# Altium footprint library PcbLib1.PcbLib: 6 footprints
Each footprint in its own frame and in the unit in brackets; x right, y up, seen from the top. Pads: shape width x height; smd on the part's side, far side on the other; paste and mask are expansions set on the pad; w line width, h text height; cw(c..) or ccw(c..) is an arc to the next point about the centre after c.
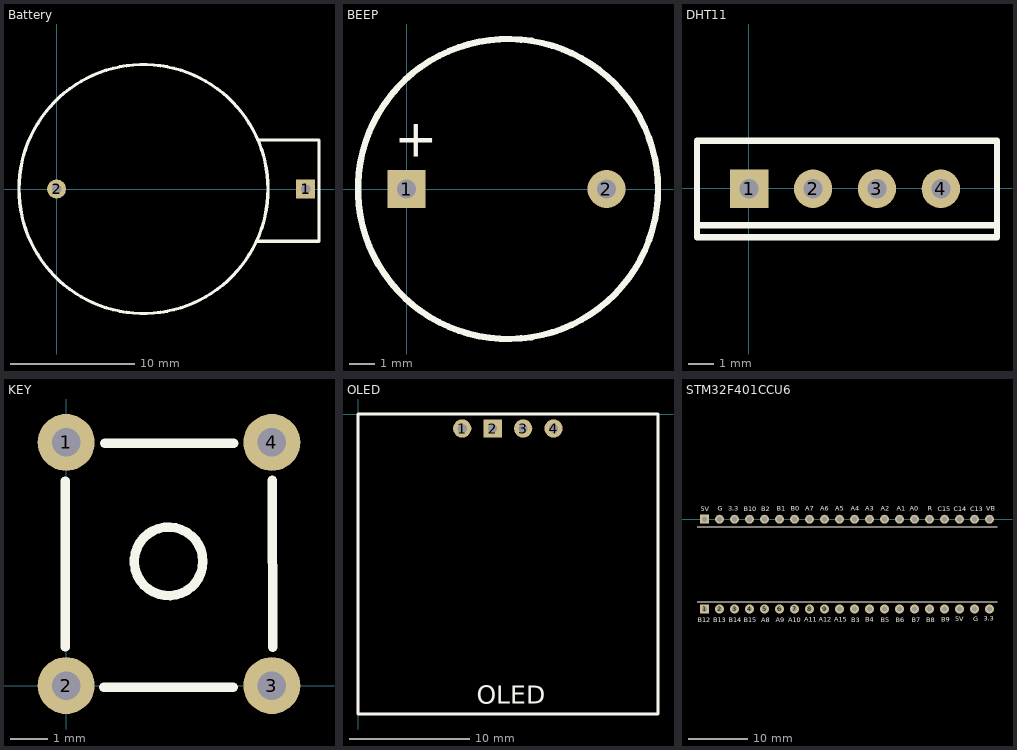
[diagram p0: the footprints below, top view; thin cyan lines are the x and y axes]

## Battery [mil]
pads (2):
  rect 60x60 hole 30: 1(787.4,0)
  round 60 hole 30: 2(0,0)
Top Overlay:
  circle w10: c275,0 r393.7
  lines w10: 635,-165 830,-165 830,155 635,155

## BEEP [mil]
pads (2):
  rect 60x60 hole 30: 1(0,0)
  round 60 hole 30: 2(314.96,0)
Top Overlay:
  circle w10: c159.84,0 r236.22
  text "+" at -19.53,50.4 h60

## DHT11 [mil]
pads (4):
  rect 60x60 hole 30: 1(0.39,-0.79)
  round 60 hole 30: 2(100.39,-0.79) 3(200.39,-0.79) 4(300.39,-0.79)
Top Overlay:
  lines w10: -79.13,-57.87 388.19,-57.87 ; -81.1,-76.77 -81.1,74.41 388.19,74.41 388.19,-76.77 -81.1,-76.77

## KEY [mil]
pads (4):
  round 60 hole 30: 1(0,255.91) 2(0,0) 3(216.54,0) 4(216.54,255.91)
Top Overlay:
  circle w10: c107.87,130.71 r36.1
  lines w10: -1.18,215.35 -0.79,40.55 ; 39.76,-1.97 175.98,-1.97 ; 40.55,255.12 176.38,255.12 ; 216.93,216.14 217.32,40.16

## OLED [mil]
pads (4):
  round 60 hole 30: 1(342.13,-47.64) 3(542.13,-47.64) 4(642.13,-47.64)
  rect 60x60 hole 30: 2(442.13,-47.64)
Top Overlay:
  lines w10: 0,-0.75 0,-985 984.25,-985 ; 0,0 984.25,0 ; 985,-985 985,-0.75
  text "OLED" at 389.92,-951.02 h60

## STM32F401CCU6 [mm]
pads (40):
  rect 1.5x1.5 hole 0.9: 1(7.239,-15.215) 40(7.239,0)
  round 1.5 hole 0.9: 2(9.779,-15.215) 3(12.319,-15.215) 4(14.859,-15.215) 5(17.399,-15.215) 6(19.939,-15.215) 7(22.479,-15.215) 8(25.019,-15.215) 9(27.559,-15.215) 10(30.099,-15.215) 11(32.639,-15.215) 12(35.179,-15.215) 13(37.719,-15.215) 14(40.259,-15.215) 15(42.799,-15.215) 16(45.339,-15.215) 17(47.879,-15.215) 18(50.419,-15.215) 19(52.959,-15.215) 20(55.499,-15.215) 21(55.499,0) 22(52.959,0) 23(50.419,0) 24(47.879,0) 25(45.339,0) 26(42.799,0) 27(40.259,0) 28(37.719,0) 29(35.179,0) 30(32.639,0) 31(30.099,0) 32(27.559,0) 33(25.019,0) 34(22.479,0) 35(19.939,0) 36(17.399,0) 37(14.859,0) 38(12.319,0) 39(9.779,0)
Top Overlay:
  lines w0.2: 5.969,-13.945 7.874,-13.945 56.769,-13.945 ; 5.969,-1.27 56.769,-1.27 5.969,-1.27
  text "C13" at 52.197,1.346 h0.81
  text "C14" at 49.454,1.372 h0.81
  text "C15" at 46.761,1.372 h0.81
  text "5V" at 49.682,-17.323 h0.81
  text "G" at 9.5,1.397 h0.81
  text "VB" at 54.966,1.397 h0.81
  text "A2" at 37.084,1.422 h0.81
  text "A1" at 39.802,1.448 h0.81
  text "A0" at 42.012,1.397 h0.81
  text "A4" at 32.029,1.422 h0.81
  text "A5" at 29.413,1.448 h0.81
  text "B0" at 21.819,1.448 h0.81
  text "A7" at 24.333,1.422 h0.81
  text "B10" at 13.868,1.372 h0.81
  text "R" at 45.06,1.397 h0.81
  text "A3" at 34.493,1.422 h0.81
  text "B1" at 19.482,1.422 h0.81
  text "A6" at 26.873,1.448 h0.81
  text "3.3" at 11.227,1.397 h0.81
  text "G" at 52.705,-17.272 h0.81
  text "5V" at 6.604,1.372 h0.81
  text "B9" at 47.346,-17.374 h0.81
  text "B7" at 42.291,-17.424 h0.81
  text "B6" at 39.599,-17.45 h0.81
  text "B4" at 34.493,-17.374 h0.81
  text "B3" at 32.055,-17.424 h0.81
  text "A12" at 26.619,-17.399 h0.81
  text "A11" at 24.13,-17.399 h0.81
  text "A9" at 19.304,-17.424 h0.81
  text "A8" at 16.815,-17.424 h0.81
  text "B13" at 8.738,-17.424 h0.81
  text "B8" at 44.78,-17.424 h0.81
  text "3.3" at 54.508,-17.221 h0.81
  text "B15" at 13.919,-17.45 h0.81
  text "B5" at 37.084,-17.424 h0.81
  text "A10" at 21.438,-17.424 h0.81
  text "B14" at 11.328,-17.45 h0.81
  text "A15" at 29.21,-17.399 h0.81
  text "B12" at 6.096,-17.424 h0.81
  text "B2" at 16.84,1.372 h0.81